# Altium schematic symbol library EMX1T2R.SchLib: 1 symbol
Pins are listed as number, name and electrical type; pins without a type are passive.

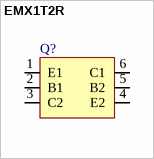
[diagram p0: symbol EMX1T2R]

## EMX1T2R
designator Q?
pins: 1 E1, 2 B1, 3 C2, 4 E2, 5 B2, 6 C1